# Altium schematic symbol library Nichicon_CapPolEl.SchLib: 1 symbol
Pins are listed as number, name and electrical type; pins without a type are passive.

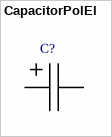
[diagram p0: symbol CapacitorPolEl]

## CapacitorPolEl
designator C?
pins: 1, 2